# EAGLE library part KLEMME_4-3 (library e-klemmen)
Klemme 4 3
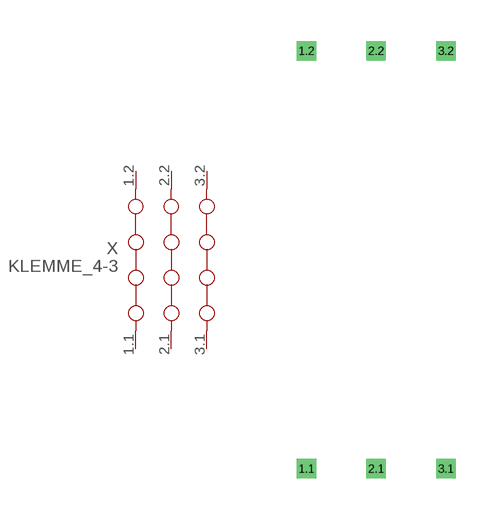
[diagram p2: symbol with the pads of KLEMME_4-3; footprint KLEMME_4-3]

Designator prefix X

## KLEMME_4-3  [KLEMME_4-3]
1.1  1.1  pas
1.2  1.2  pas
2.1  2.1  pas
2.2  2.2  pas
3.1  3.1  pas
3.2  3.2  pas

## Footprint KLEMME_4-3 (pad centres in mm)
Dummy
drill 0.2 pad 0.6 square: 1.1 -2.54,-7.62; 1.2 -2.54,7.62; 2.1 0,-7.62; 2.2 0,7.62; 3.1 2.54,-7.62; 3.2 2.54,7.62